# Altium footprint library PCB - TEST POINT - 1P5 MM CIRCULAR PAD.PCBLIB: 1 footprints
Each footprint in its own frame and in the unit in brackets; x right, y up, seen from the top. Pads: shape width x height; smd on the part's side, far side on the other; paste and mask are expansions set on the pad; w line width, h text height; cw(c..) or ccw(c..) is an arc to the next point about the centre after c.
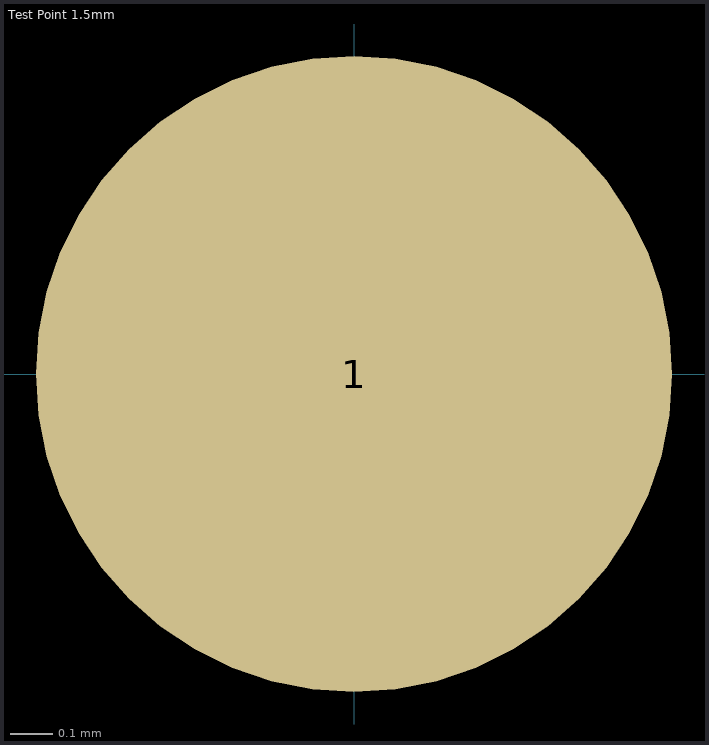
[diagram p0: the footprint, top view; thin cyan lines are the x and y axes]

## Test Point 1.5mm [mm]
pads (1):
  round 1.5 smd paste-1.5 mask+0: 1(0,0)